# EAGLE library part NEG-VOLTAGE-CONVERTOR (library Charge Pump Voltage Convertors)
Negative voltage convertor
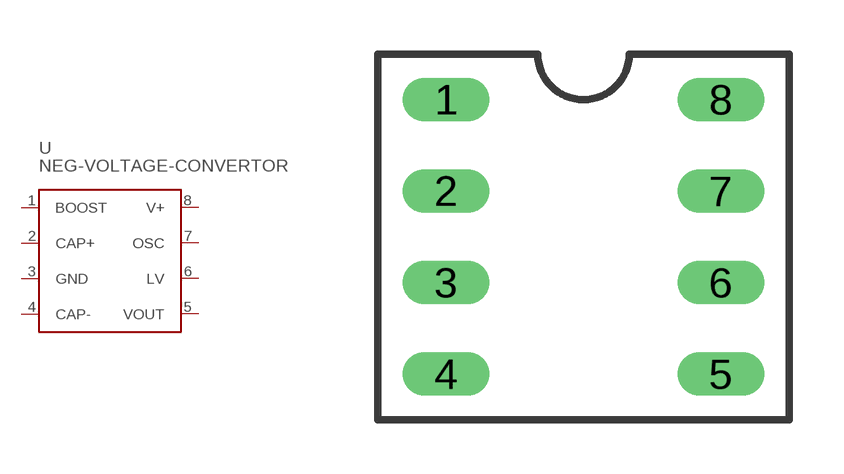
[diagram p0: symbol with the pads of DIP8; footprint DIP8]

Designator prefix U

## NEG-VOLTAGE-CONVERTOR  [DIP8]
1  BOOST  pas
2  CAP+  pas
3  GND  pas
4  CAP-  pas
5  VOUT  pas
6  LV  pas
7  OSC  pas
8  V+  pas

## NEG-VOLTAGE-CONVERTORLT1054  [DIP8]
Pads as for DIP8

## Footprint DIP8 (pad centres in mm)
DIP8
drill 0.7 long: 1 0,2.54; 2 0,0; 3 0,-2.54; 4 0,-5.08; 5 7.62,-5.08; 6 7.62,-2.54; 7 7.62,0; 8 7.62,2.54